# EAGLE library part 1EDS5663HXUMA1 (library 1EDS5663HXUMA1)
INFINEON - 1EDS5663HXUMA1 - MOSFET DRIVER, -40 TO 85DEG C Source: Datasheet <https://www.infineon.com/cms/en/product/power/gate-driver-ics/?>
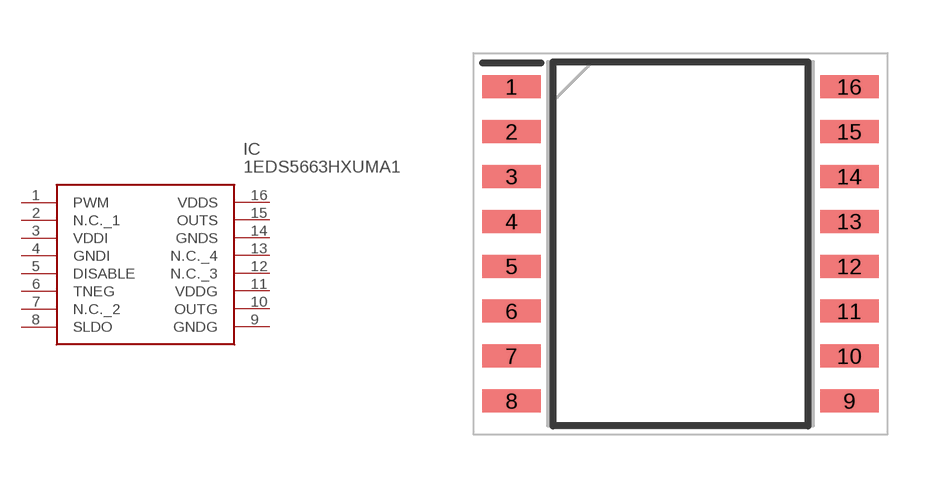
[diagram p0: symbol with the pads of SOIC127P1030X265-16N; footprint SOIC127P1030X265-16N]

Designator prefix IC

## 1EDS5663HXUMA1 (Arrow_Part_Number: 1EDS5663HXUMA1; Arrow_Price-Stock: https://www.arrow.com/en/products/1eds5663hxuma1/infineon-technologies-ag; Description: INFINEON - 1EDS5663HXUMA1 - MOSFET DRIVER, -40 TO 85DEG C; Height: 2.65mm; Manufacturer_Name: Infineon; Manufacturer_Part_Number: 1EDS5663HXUMA1; Mouser_Part_Number: 726-1EDS5663HXUMA1; Mouser_Price-Stock: https://www.mouser.co.uk/ProductDetail/Infineon-Technologies/1EDS5663HXUMA1?qs=qSfuJ%252Bfl%2Fd4lzhyBsDCQtQ%3D%3D)  [SOIC127P1030X265-16N]
1  PWM
2  N.C._1
3  VDDI
4  GNDI
5  DISABLE
6  TNEG
7  N.C._2
8  SLDO
9  GNDG
10  OUTG
11  VDDG
12  N.C._3
13  N.C._4
14  GNDS
15  OUTS
16  VDDS

## Footprint SOIC127P1030X265-16N (pad centres in mm)
PG-DSO-16-30
smd 1.65 x 0.65: 1 -4.775,4.445; 2 -4.775,3.175; 3 -4.775,1.905; 4 -4.775,0.635; 5 -4.775,-0.635; 6 -4.775,-1.905; 7 -4.775,-3.175; 8 -4.775,-4.445; 9 4.775,-4.445; 10 4.775,-3.175; 11 4.775,-1.905; 12 4.775,-0.635; 13 4.775,0.635; 14 4.775,1.905; 15 4.775,3.175; 16 4.775,4.445